# Altium footprint library Nucleo_Dory_QFN68.PcbLib: 55 footprints (part 1 of 4)
Each footprint in its own frame and in the unit in brackets; x right, y up, seen from the top. Pads: shape width x height; smd on the part's side, far side on the other; paste and mask are expansions set on the pad; w line width, h text height; cw(c..) or ccw(c..) is an arc to the next point about the centre after c.
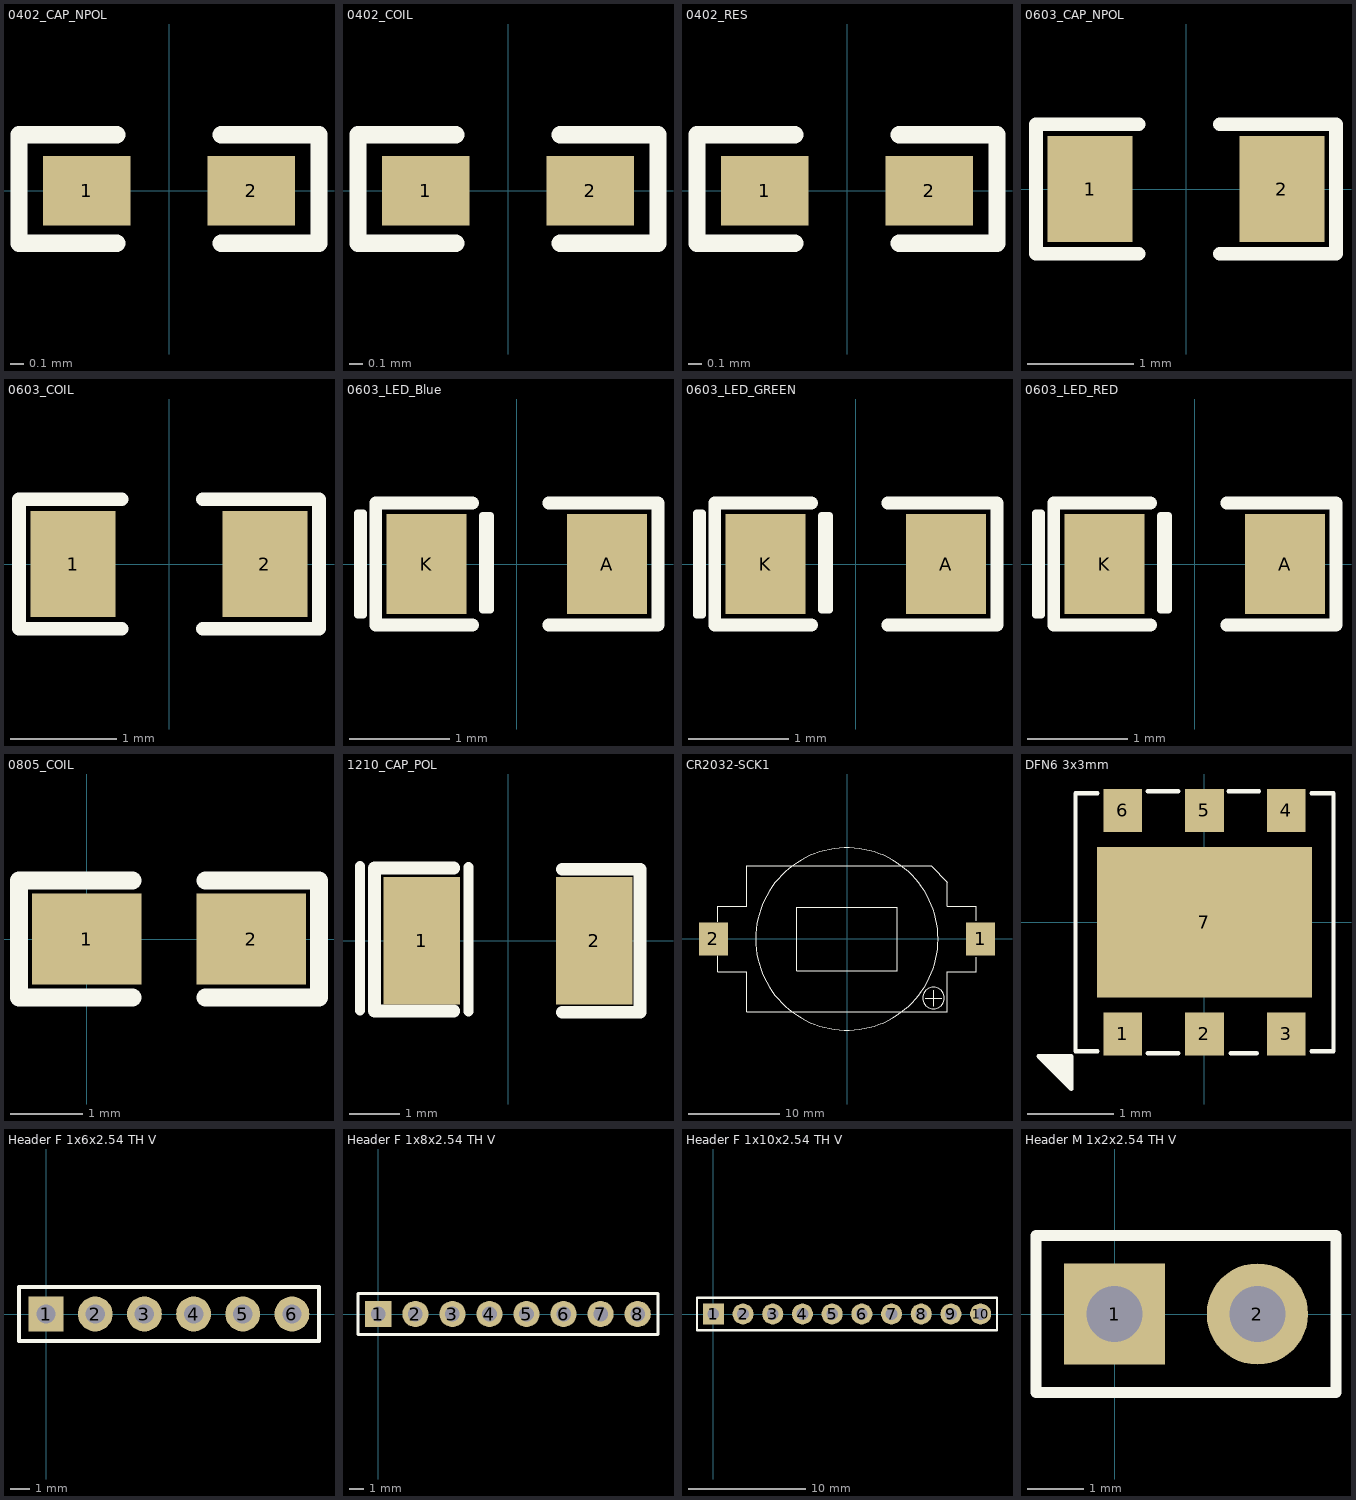
[diagram p0: the footprints below, top view; thin cyan lines are the x and y axes]

## 0402_CAP_NPOL [mil]
pads (2):
  rect 25x20 smd: 1(-23.58,0) 2(23.58,0)
Top Overlay:
  lines w5: -15,-15 -43,-15 -43,16 -15,16 ; 15,-15 43,-15 43,16 15,16
3D body: height 30.32, standoff 0, extent -23,-12 25,13
3D body: height 32.28, standoff 0, extent 25,-14 41,14
3D body: height 32.28, standoff 0, extent -39,-14 -23,14

## 0402_COIL [mil]
pads (2):
  rect 25x20 smd: 1(-23.58,0) 2(23.58,0)
Top Overlay:
  lines w5: -15,-15 -43,-15 -43,16 -15,16 ; 15,-15 43,-15 43,16 15,16
3D body: height 15.75, standoff 0, extent -38,-11 -30,13
3D body: height 15.75, standoff 0, extent 31,-11 39,13
3D body: height 15.75, standoff 0, extent -30,-11 31,13

## 0402_RES [mil]
pads (2):
  rect 25x20 smd: 1(-23.58,0) 2(23.58,0)
Top Overlay:
  lines w5: -15,-15 -43,-15 -43,16 -15,16 ; 15,-15 43,-15 43,16 15,16
3D body: height 15.75, standoff 0, extent -38,-11 -30,13
3D body: height 15.75, standoff 0, extent 31,-11 39,13
3D body: height 15.75, standoff 0, extent -30,-11 31,13

## 0603_CAP_NPOL [mm]
pads (2):
  rect 0.8x1 smd: 1(-0.902,0) 2(0.902,0)
Top Overlay:
  lines w0.127: -0.445,-0.61 -1.41,-0.61 -1.41,0.61 -0.445,0.61 ; 0.318,-0.61 1.41,-0.61 1.41,0.61 0.318,0.61
3D body: height 0.82, standoff 0, extent -1.283,-0.457 -0.826,0.483
3D body: height 0.82, standoff 0, extent 0.876,-0.457 1.257,0.483
3D body: height 0.77, standoff 0, extent -0.826,-0.432 0.876,0.457

## 0603_COIL [mm]
pads (2):
  rect 0.8x1 smd: 1(-0.902,0) 2(0.902,0)
Top Overlay:
  lines w0.127: -0.445,-0.61 -1.41,-0.61 -1.41,0.61 -0.445,0.61 ; 0.318,-0.61 1.41,-0.61 1.41,0.61 0.318,0.61
3D body: height 0.4, standoff 0, extent -1.257,-0.483 -1.029,0.483
3D body: height 0.4, standoff 0, extent 1.054,-0.483 1.257,0.483
3D body: height 0.4, standoff 0, extent -1.029,-0.483 1.054,0.483

## 0603_LED_Blue [mm]
pads (2):
  rect 0.8x1 smd: A(0.902,0) K(-0.902,0)
Top Overlay:
  lines w0.075: -0.343,0.483 -0.343,-0.457 -0.267,-0.457 -0.267,0.483 -0.318,0.483 -0.292,-0.432 ; -1.587,-0.508 -1.587,0.508 -1.537,0.508 -1.537,-0.508 -1.587,-0.508
  lines w0.127: -0.445,-0.61 -1.41,-0.61 -1.41,0.61 -0.445,0.61 ; 0.318,-0.61 1.41,-0.61 1.41,0.61 0.318,0.61
3D body: height 0.84, standoff 0.4, extent -0.699,-0.483 0.724,0.483
3D body: height 0.4, standoff 0, extent -1.257,-0.483 -1.029,0.483
3D body: height 0.4, standoff 0, extent 1.054,-0.483 1.257,0.483
3D body: height 0.4, standoff 0, extent -1.029,-0.483 1.054,0.483

## 0603_LED_GREEN [mm]
pads (2):
  rect 0.8x1 smd: A(0.902,0) K(-0.902,0)
Top Overlay:
  lines w0.075: -0.343,0.483 -0.343,-0.457 -0.267,-0.457 -0.267,0.483 -0.318,0.483 -0.292,-0.432 ; -1.587,-0.508 -1.537,-0.508 -1.537,0.508 -1.587,0.508 -1.587,-0.508
  lines w0.127: -0.445,-0.61 -1.41,-0.61 -1.41,0.61 -0.445,0.61 ; 0.318,-0.61 1.41,-0.61 1.41,0.61 0.318,0.61
3D body: height 0.4, standoff 0, extent -1.029,-0.483 1.054,0.483
3D body: height 0.4, standoff 0, extent 1.054,-0.483 1.257,0.483
3D body: height 0.4, standoff 0, extent -1.257,-0.483 -1.029,0.483
3D body: height 0.84, standoff 0.4, extent -0.699,-0.483 0.724,0.483

## 0603_LED_RED [mm]
pads (2):
  rect 0.8x1 smd: A(0.902,0) K(-0.902,0)
Top Overlay:
  lines w0.075: -0.343,0.483 -0.343,-0.457 -0.267,-0.457 -0.267,0.483 -0.318,0.483 -0.292,-0.432 ; -1.587,-0.508 -1.537,-0.508 -1.537,0.508 -1.587,0.508 -1.587,-0.508
  lines w0.127: -0.445,-0.61 -1.41,-0.61 -1.41,0.61 -0.445,0.61 ; 0.318,-0.61 1.41,-0.61 1.41,0.61 0.318,0.61
3D body: height 0.4, standoff 0, extent -1.029,-0.483 1.054,0.483
3D body: height 0.4, standoff 0, extent 1.054,-0.483 1.257,0.483
3D body: height 0.4, standoff 0, extent -1.257,-0.483 -1.029,0.483
3D body: height 0.84, standoff 0.4, extent -0.699,-0.483 0.724,0.483

## 0805_COIL [mil]
pads (2):
  rect 60x50 smd: 1(0,0) 2(90,0)
Top Overlay:
  lines w10: 25,-32 -37,-32 -37,32 25,32 ; 65,-32 127,-32 127,32 65,32
3D body: height 15.75, standoff 0, extent -5,-25 97,25
3D body: height 15.75, standoff 0, extent -21,-25 -5,25
3D body: height 15.75, standoff 0, extent 97,-25 113,25

## 1210_CAP_POL [mil]
pads (2):
  rect 60x100 smd: 1(-67.5,0) 2(67.5,0)
Top Overlay:
  lines w7.87: -115.85,-54.53 -115.85,58.7 ; -31.08,-55.47 -31.08,57.76
  lines w10: -42.5,-55 -104.5,-55 -104.5,57 -42.5,57 ; 42.5,-56 103.5,-56 103.5,56 42.5,56
3D body "AVX_Capacitor Tantale_ TAJB.step": height 79.92, standoff 0, extent -72.4,-57.13 73.27,58.23

## CR2032-SCK1 [mm]
pads (2):
  rect 3.2x3.6 smd: 1(14.65,0) 2(-14.65,0)
Top Overlay:
  circle w0.127: c-0.008,-0.008 r10
  circle w0.127: c9.493,-6.476 r1.192
  lines w0.127: -14.2,-1.821 -14.2,-3.6 -11,-3.6 -11,-8 11,-8 11,-3.6 14.2,-3.6 14.2,-2 ; -14.2,1.888 -14.2,3.6 -11,3.6 -11,8 9.219,8 11,6.219 11,3.6 14.2,3.6 14.2,2 ; 8.605,-6.498 10.383,-6.498 ; 9.489,-7.381 9.489,-5.625 ; -5.5,-3.5 -5.5,3.5 5.5,3.5 5.5,-3.5 -5.5,-3.5
3D body "CR2032_Holder.STEP": height 5.6, standoff 0, extent -16.1,-8 16.1,8

## DFN6 3x3mm [mm]
pads (7):
  rect 0.45x0.5 smd mask+0.02: 1(-0.95,-1.3) 2(0,-1.3) 3(0.95,-1.3) 4(0.95,1.3) 5(0,1.3) 6(-0.95,1.3)
  rect 2.5x1.75 smd mask+0.02: 7(0,0)
Top Overlay:
  lines w0.05: -1.651,-1.585 -1.651,-1.687 -1.626,-1.61 -1.702,-1.585 -1.6,-1.788 -1.6,-1.61 -1.549,-1.585 -1.778,-1.585 -1.575,-1.763 -1.6,-1.839 -1.854,-1.56 -1.575,-1.814 -1.575,-1.89 -1.93,-1.56 ; -1.246,-1.5 -1.5,-1.5 -1.5,1.5 -1.246,1.5 ; -0.66,-1.524 -0.305,-1.524 ; -0.66,1.524 -0.305,1.524 ; 0.279,1.524 0.635,1.524 ; 0.305,-1.524 0.61,-1.524 ; 1.246,-1.5 1.5,-1.5 1.5,1.5 1.246,1.5 ; -1.93,-1.56 -1.549,-1.941 -1.549,-1.56 -1.93,-1.56
3D body: height 0.9, standoff 0.8, extent -1.366,-1.265 -0.867,-0.766
3D body: height 0.8, standoff 0, extent -1.524,-1.524 1.524,1.524

## Header F 1x6x2.54 TH V [mm]
pads (6):
  rect 1.8x1.8 hole 1: 1(0,0)
  round 1.8 hole 1: 2(2.54,0) 3(5.08,0) 4(7.62,0) 5(10.16,0) 6(12.7,0)
Top Overlay:
  lines w0.2: -1.397,-1.397 -1.397,1.397 14.097,1.397 14.097,-1.397 -1.397,-1.397
3D body "1x6_female_header_TH_2.54.stp": height 8.5, standoff -3.2, extent -1.42,-1.275 14.07,1.225

## Header F 1x8x2.54 TH V [mm]
pads (8):
  rect 1.8x1.8 hole 1: 1(0,0)
  round 1.8 hole 1: 2(2.54,0) 3(5.08,0) 4(7.62,0) 5(10.16,0) 6(12.7,0) 7(15.24,0) 8(17.78,0)
Top Overlay:
  lines w0.2: -1.397,-1.397 19.177,-1.397 19.177,1.397 -1.397,1.397 -1.397,-1.397
3D body "1x8_female_header_TH_2.54.stp": height 8.5, standoff -3.2, extent -1.42,-1.351 19.15,1.149

## Header F 1x10x2.54 TH V [mm]
pads (10):
  rect 1.8x1.8 hole 1: 1(0,0)
  round 1.8 hole 1: 2(2.54,0) 3(5.08,0) 4(7.62,0) 5(10.16,0) 6(12.7,0) 7(15.24,0) 8(17.78,0) 9(20.32,0) 10(22.86,0)
Top Overlay:
  lines w0.2: -1.397,-1.397 24.26,-1.397 24.26,1.397 -1.397,1.397 -1.397,-1.397
3D body "1x10_female_header_TH_2.54.stp": height 8.5, standoff -3.2, extent -1.42,-1.326 24.23,1.174

## Header M 1x2x2.54 TH V [mm]
pads (2):
  rect 1.8x1.8 hole 1: 1(0,0)
  round 1.8 hole 1: 2(2.54,0)
Top Overlay:
  lines w0.2: -1.397,-1.397 3.937,-1.397 3.937,1.397 -1.397,1.397 -1.397,-1.397
3D body "1x2x2.54 Pin Header TH  V.STEP": height 8.55, standoff -2.99, extent -1.27,-1.27 3.81,1.27